# Altium schematic symbol library Schematics.SchLib: 95 symbols
Pins are listed as number, name and electrical type; pins without a type are passive.

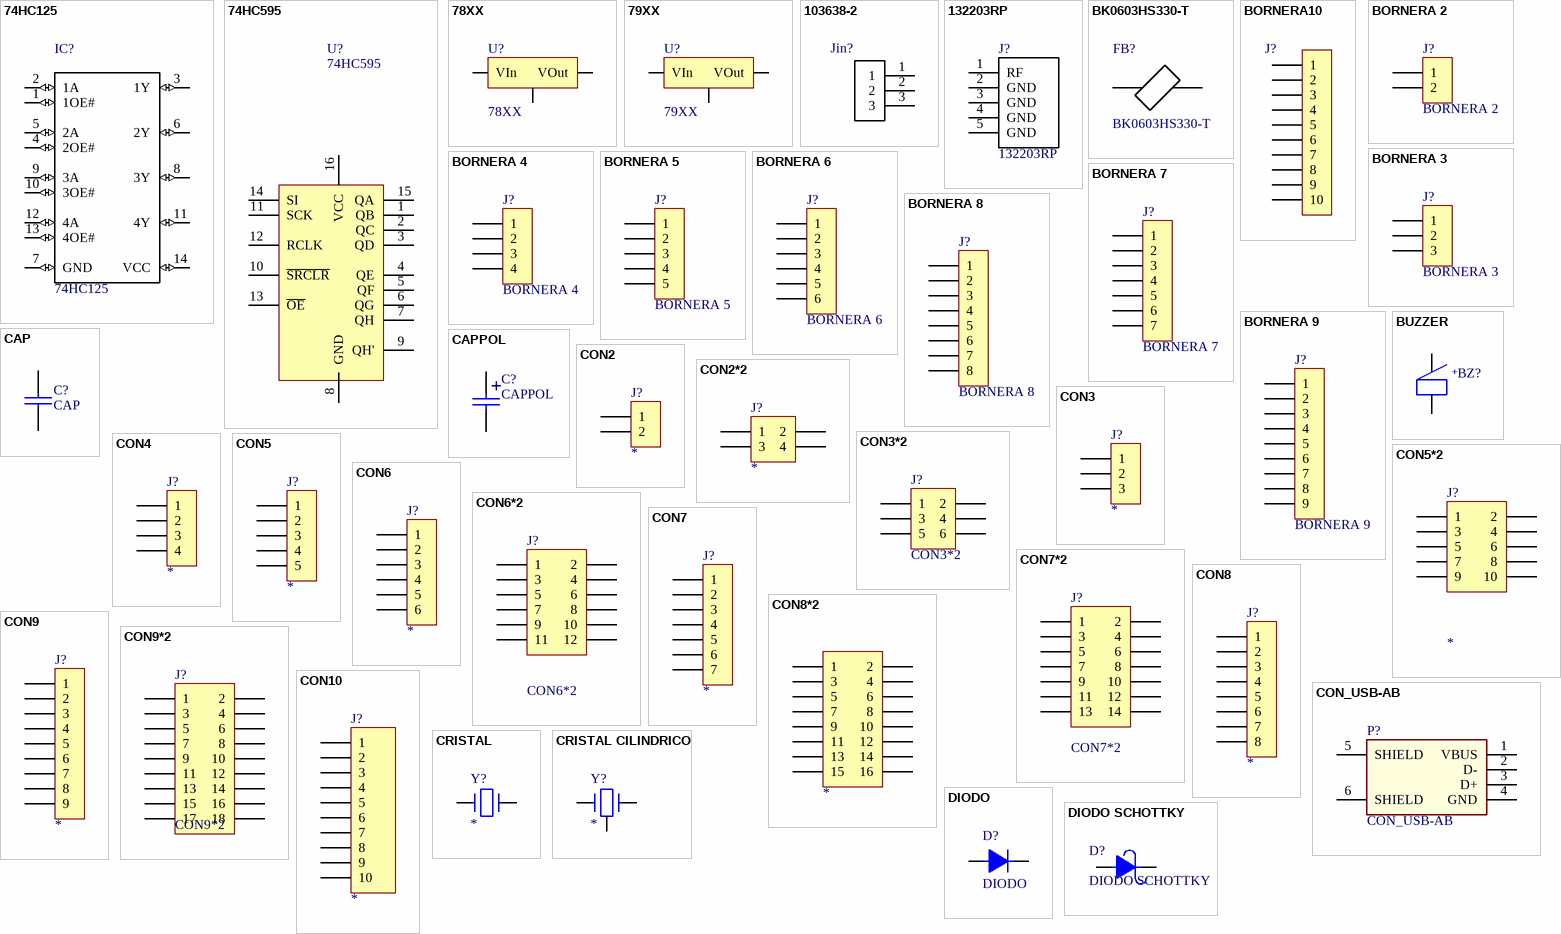
[diagram p0: symbols 74HC125 to DIODO SCHOTTKY]

## 74HC125
designator IC?
Buffer, Non-Inverting 4 Element 1 Bit per Element 3-State Output 14-SO; MF: Nexperia USA; Price: None; Package: SOIC-14 STMicroelectronics; Availability: Unavailable; MP: 74HC125; SnapEDA_Link: https://www.snapeda.com/parts/74HC125/Nexperia%20USA%20Inc./view-part/560724/?ref=snap; Value: *
footprint SOIC-14
pins: 1 1OE# (io), 2 1A (io), 3 1Y (io), 4 2OE# (io), 5 2A (io), 6 2Y (io), 7 GND (io), 8 3Y (io), 9 3A (io), 10 3OE# (io), 11 4Y (io), 12 4A (io), 13 4OE# (io), 14 VCC (io)

## 74HC595
designator U?
footprint DIP16
footprint SOIC16N
pins: 1 QB, 2 QC, 3 QD, 4 QE, 5 QF, 6 QG, 7 QH, 8 GND, 9 QH', 10 ~{SRCLR}, 11 SCK, 12 RCLK, 13 ~{OE}, 14 SI, 15 QA, 16 VCC

## 78XX
designator U?
REGULDOR POSITIVO
footprint TO-220 H
footprint TO-220 V
footprint TO92
footprint TO-220 H - DISIPADOR
pins: 1 VIn, 2 GND, 3 VOut

## 79XX
designator U?
REGULADOR NEGATIVO
footprint TO-220 H
footprint TO-220 V
footprint TO-220 H - DISIPADOR
footprint TO92
pins: 1 GND, 2 VIn, 3 VOut

## 103638-2
designator Jin?  (value not drawn)
Header; Shrouded; Vertical; Brass; Thermoplastic; 3; 0.1 in.; Gold; 0.025 in.; MF: TE Connectivity; TE_purchase_URL: https://www.te.com/usa-en/product-103638-2.html?te_bu=Cor&te_type=disp&te_campaign=seda_glo_cor-seda-global-disp-prtnr-fy19-seda-model-bom-cta_sma-317_1&elqCampaignId=32493; EU_RoHS_Compliance: Not Compliant; SnapEDA_Link: https://www.snapeda.com/parts/103638-2/TE%20Connectivity%20AMP%20Connectors/view-part/?ref=snap; MP: 103638-2; Digi-Key_Purchase_URL: https://www.digikey.com/product-detail/en/te-connectivity-amp-connectors/103638-2/A28527-ND/298717?utm_source=snapeda&utm_medium=aggregator&utm_campaign=symbol; Digi-Key_Part_Number: A28527-ND; Package: None; Value: *
footprint TE_103638-2 (Footprint not found)
pins: 1, 2, 3

## 132203RP
designator J?
SMA Right Angle PCB Jack, Through Hole, 50 Ohm, Bulkhead, Reverse Polarized; MF: Amphenol RF; Package: None; MP: 132203RP; SnapEDA_Link: https://www.snapeda.com/parts/132203RP/Amphenol%20RF%20Division/view-part/?ref=snap; Availability: Unavailable; Price: None; Value: *
footprint AMPHENOL_132203RP
pins: 1 RF, 2 GND, 3 GND, 4 GND, 5 GND

## BK0603HS330-T
designator FB?
Ind Chip Bead Shielded Multi-Layer 33Ohm 25% 100MHz Ferrite 500mA 0201 T/R; MF: Taiyo Yuden; Package: 0603 Taiyo Yuden; Availability: Unavailable; MP: BK0603HS330-T; Price: None; SnapEDA_Link: https://www.snapeda.com/parts/BK0603HS330-T/Taiyo%20Yuden/view-part/?ref=snap; Value: *
footprint BEADC0603X33N
pins: 1, 2

## BORNERA10
designator J?  (value not drawn)
footprint BORNERA10
pins: 1, 2, 3, 4, 5, 6, 7, 8, 9, 10

## BORNERA 2
designator J?
footprint BORNERA2 (Bornera con Tornillos 5mm separación)
pins: 1, 2

## BORNERA 3
designator J?
footprint BORNERA3 (Bornera con Tornillos 5mm separación)
pins: 1, 2, 3

## BORNERA 4
designator J?
footprint BORNERA4 (Bornera con Tornillos 5mm separación)
pins: 1, 2, 3, 4

## BORNERA 5
designator J?
footprint BORNERA5 (Bornera con Tornillos 5mm separación)
pins: 1, 2, 3, 4, 5

## BORNERA 6
designator J?
footprint BORNERA6 (Bornera con Tornillos 5mm separación)
pins: 1, 2, 3, 4, 5, 6

## BORNERA 7
designator J?
footprint BORNERA7 (Bornera con Tornillos 5mm separación)
pins: 1, 2, 3, 4, 5, 6, 7

## BORNERA 8
designator J?
footprint BORNERA8 (Bornera con Tornillos 5mm separación)
pins: 1, 2, 3, 4, 5, 6, 7, 8

## BORNERA 9
designator J?
footprint BORNERA9 (Bornera con Tornillos 5mm separación)
pins: 1, 2, 3, 4, 5, 6, 7, 8, 9

## BUZZER
designator BZ?
footprint BUZZER 12MM
pins: 1, 2
text: +

## CAP
designator C?
footprint 0805 (Pasivo 0805)
footprint 1206 (Pasivo 1206)
footprint 0603 (Footprint not found)
footprint CAP200
footprint CAP100
footprint 0603 - Slim (Pasivo 0603)
footprint 0805 - slim (Pasivo 0805)
footprint 1206 - Slim (Pasivo 1206)
footprint 0402 (Pasivo 0603)
pins: 1, 2

## CAPPOL
designator C?
footprint CAP100RP
footprint CAP200RP
footprint CAP100RP2 (Footprint not found)
footprint CAP200RP2 (Body Diameter 12.5mm)
footprint CAP300RP
pins: 1, 2
text: +

## CON2
designator J?
footprint SIP2
footprint SIP2 90
pins: 1, 2

## CON2*2
designator J?
footprint SIP2*2
pins: 1, 2, 3, 4

## CON3
designator J?
footprint SIP3
footprint SIP3 90
pins: 1, 2, 3

## CON3*2
designator J?
footprint SIP3*2 (Footprint not found)
pins: 1, 2, 3, 4, 5, 6

## CON4
designator J?
footprint SIP4
footprint SIP4 90
pins: 1, 2, 3, 4

## CON5
designator J?
footprint SIP5
footprint SIP5 90
pins: 1, 2, 3, 4, 5

## CON5*2
designator J?
footprint SIP5*2
pins: 1, 2, 3, 4, 5, 6, 7, 8, 9, 10

## CON6
designator J?
footprint SIP6
footprint SIP6 90
pins: 1, 2, 3, 4, 5, 6

## CON6*2
designator J?
footprint SIP6*2
pins: 1, 2, 3, 4, 5, 6, 7, 8, 9, 10, 11, 12

## CON7
designator J?
footprint SIP7
footprint SIP7 90
pins: 1, 2, 3, 4, 5, 6, 7

## CON7*2
designator J?
footprint SIP7*2
pins: 1, 2, 3, 4, 5, 6, 7, 8, 9, 10, 11, 12, 13, 14

## CON8
designator J?
footprint SIP8
footprint SIP8 90
pins: 1, 2, 3, 4, 5, 6, 7, 8

## CON8*2
designator ?
footprint SIP8*2
pins: 1, 2, 3, 4, 5, 6, 7, 8, 9, 10, 11, 12, 13, 14, 15, 16

## CON9
designator J?
footprint SIP9
footprint SIP9 90
pins: 1, 2, 3, 4, 5, 6, 7, 8, 9

## CON9*2
designator J?
footprint SIP9*2
pins: 1, 2, 3, 4, 5, 6, 7, 8, 9, 10, 11, 12, 13, 14, 15, 16, 17, 18

## CON10
designator J?
footprint SIP10
footprint SIP10 90
pins: 1, 2, 3, 4, 5, 6, 7, 8, 9, 10

## CON_USB-AB
designator P?
CONN RCPT USB TYPE B R/A PCB; Digikey: 609-1039-ND
footprint USB-BCH
pins: 1 VBUS, 2 D-, 3 D+, 4 GND, 5 SHIELD, 6 SHIELD

## CRISTAL
designator Y?
footprint CRISTAL PERFIL
pins: 1, 2 10

## CRISTAL CILINDRICO
designator Y?
footprint CRISTAL CILINDRICO (Footprint not found)
pins: 1, 2 10, 3 10

## DIODO
designator D?
footprint SMAK
footprint 1206K
footprint DO41
footprint SMBK
footprint SMCK
pins: 1, 2

## DIODO SCHOTTKY
designator D?
footprint SMAK
footprint SMCK
footprint DO41
footprint SMBK
pins: 1, 2

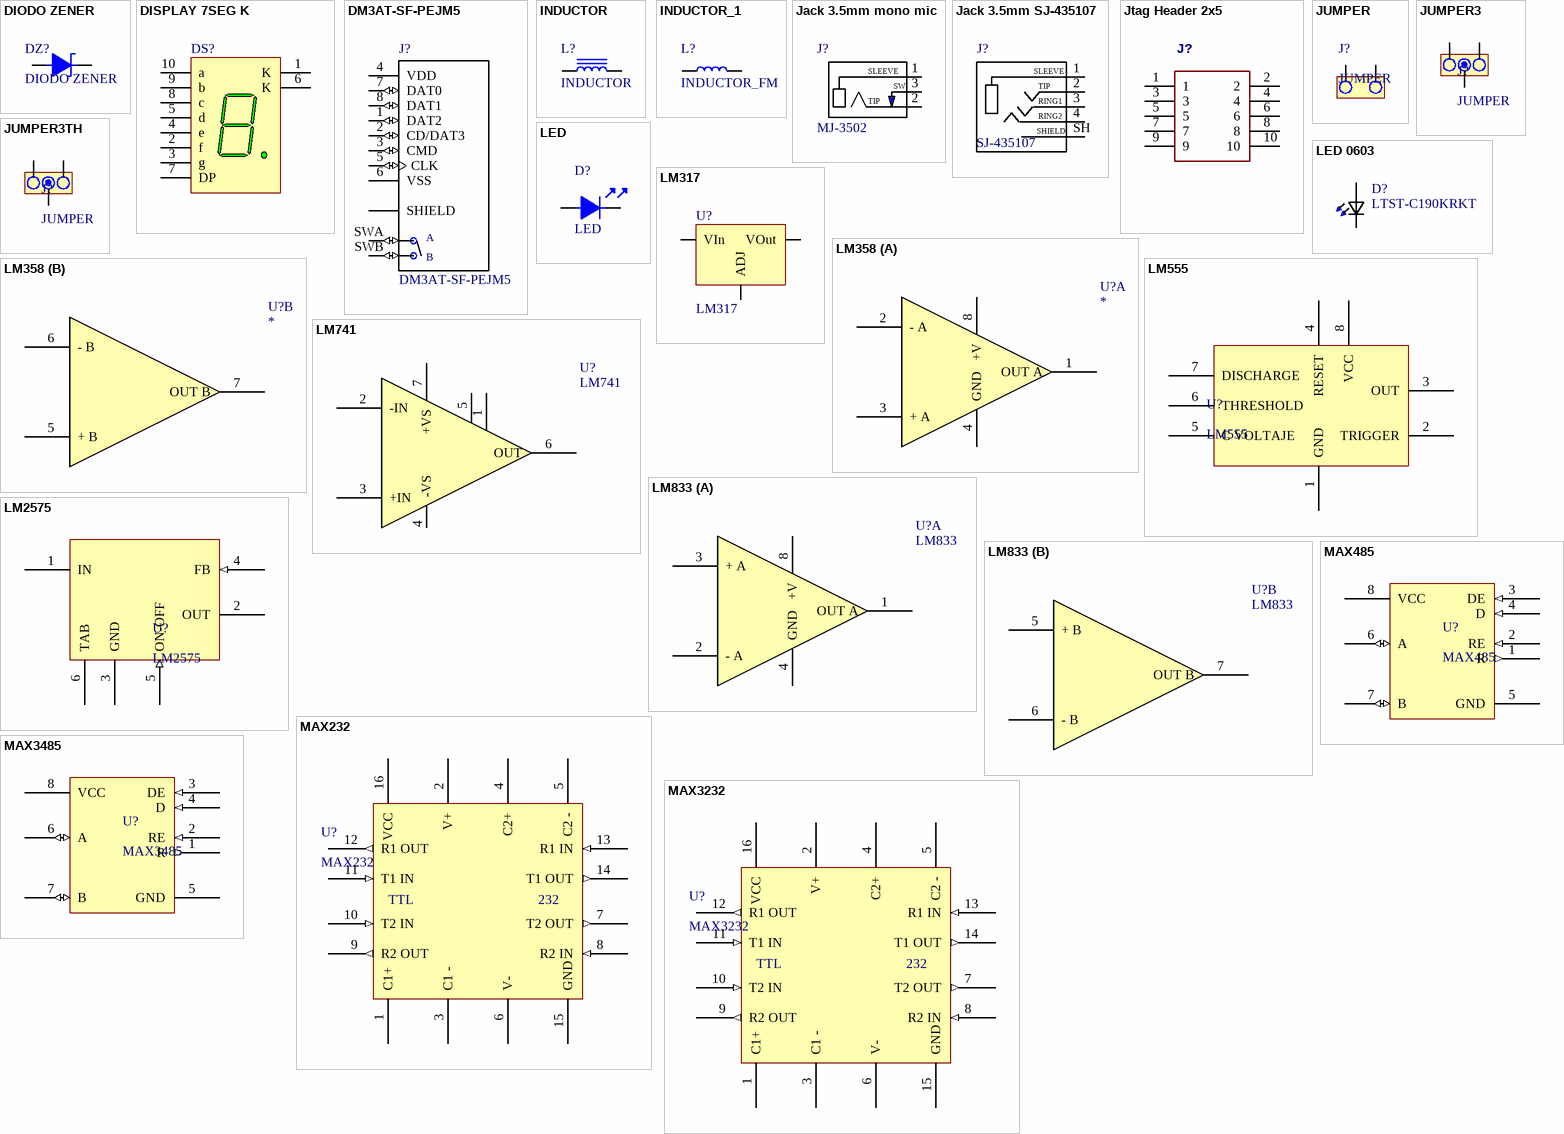
[diagram p1: symbols DIODO ZENER to MAX3485]

## DIODO ZENER
designator DZ?
footprint SOT23
footprint DO41
pins: 1, 2

## DISPLAY 7SEG K
designator DS?
7 Segment display common cathode
footprint DISPLAY_LED_0.3" (TOS-3104AG-B)
pins: 1 K "Cathode", 2 f "Anode", 3 g "Anode", 4 e "Anode", 5 d "Anode", 6 K "Cathode", 7 DP "Anode", 8 c "Anode", 9 b "Anode", 10 a "Anode"

## DM3AT-SF-PEJM5
designator J?
DM3 RA SMT microSD memory card push/push; MF: Hirose; SnapEDA_Link: https://www.snapeda.com/parts/DM3AT-SF-PEJM5/Hirose%20Electric%20Co%20Ltd/view-part/?ref=snap; Digi-Key_Part_Number: HR1964CT-ND; Digi-Key_Purchase_URL: https://www.digikey.com/product-detail/en/hirose-electric-co-ltd/DM3AT-SF-PEJM5/HR1964CT-ND/2533566?utm_source=snapeda&utm_medium=aggregator&utm_campaign=symbol; MP: DM3AT-SF-PEJM5; Package: None; Value: *
footprint HRS_DM3AT-SF-PEJM5_DM3AT-SF-PEJM5(Primary)
pins: 1 DAT2 (io), 2 CD/DAT3 (io), 3 CMD (io), 4 VDD (power), 5 CLK (io), 6 VSS (power), 7 DAT0 (io), 8 DAT1 (io), P1 SHIELD, P2 SHIELD, P3 SHIELD, P4 SHIELD, SWA A (io), SWB B (io)

## INDUCTOR
designator L?
footprint WE-PD SERIES (POWER-CHOKE WE-PD)
footprint DO3316
footprint L_IHLP (Footprint para IHLP2525CZER3R3M11)
footprint SRR1210
pins: 1, 2

## INDUCTOR_1
designator L?, comment INDUCTOR_FM
footprint INDUCTOR_FM
pins: 1, 2

## Jack 3.5mm mono mic
designator J?, comment MJ-3502
3.5 mm, Mono, Right Angle, Through Hole, Threaded Bushing, Audio Jack Connector; MF: CUI Devices; CUI_purchase_URL: https://www.cuidevices.com/product/interconnect/connectors/audio-connectors/jacks/mj-3502?utm_source=snapeda.com&utm_medium=referral&utm_campaign=snapedaBOM; SnapEDA_Link: https://www.snapeda.com/parts/MJ-3502/CUI%20Devices/view-part/576112/?ref=snap; MP: MJ-3502; Availability: Unavailable; Price: None; Package: None; Value: *
footprint CUI_MJ-3502
pins: 1 SLEEVE, 2 TIP, 3 SWITCH
text: SW

## Jack 3.5mm SJ-435107
designator J?, comment SJ-435107
3.5 mm, TRRS 4 Conductors, Right Angle, Through Hole, Spring Tabs,  Shielded, Audio Jack Connector; MF: CUI Devices; CUI_purchase_URL: https://www.cuidevices.com/product/interconnect/connectors/audio-connectors/jacks/sj-435107-series?utm_source=snapeda.com&utm_medium=referral&utm_campaign=snapedaBOM; SnapEDA_Link: https://www.snapeda.com/parts/SJ-435107/CUI%20Devices/view-part/533929/?ref=snap; Availability: Unavailable; Price: None; Package: None; MP: SJ-435107; Value: *
footprint CUI_SJ-435107
pins: 1 SLEEVE, 2 TIP, 3 RING1, 4 RING2, SH
text: SHIELD

## Jtag Header 2x5
designator J?
Jtag Header 2x5: / 1.27mm/50mil
footprint Jtag Header 2x5 (Jtag 10 connector 50mil/1.27mm)
pins: 1, 2, 3, 4, 5, 6, 7, 8, 9, 10

## JUMPER
designator J?
footprint 0805 (Pasivo 0805)
footprint JUMPER2
pins: 1, 2

## JUMPER3
designator J?, comment JUMPER
footprint JUMPER3
pins: 1, 2, 3

## JUMPER3TH
designator J?, comment JUMPER
TIRA DE PINES 1x3
footprint JUMPER3TH
pins: 1, 2, 3

## LED
designator D?
footprint 0805 (Chip Resistor, 2-Leads, Body 0,8"x0,5" - 2,0x1,3mm, IPC High Density)
footprint LED3
footprint LED5
footprint 0805 - slim (Pasivo 0805)
pins: 1, 2

## LED 0603
designator D?, comment LTST-C190KRKT
LTST Series Red 1.6 x 0.8 x 0.8 mm 130Â° Water Clear 54 mcd 2.4 V LED SMT; MF: Lite-On Inc.; Availability: Unavailable; Package: 0603 Lite-On; SnapEDA_Link: https://www.snapeda.com/parts/LTST-C190KRKT/Lite-On%20Inc./view-part/?ref=snap; Price: None; MP: LTST-C190KRKT; Value: *
footprint 0603 LED
pins: 1 K2, 2 A2

## LM317
designator U?
IC REG ADJ 1.5A 3 TERM TO-220
footprint TO-220 H
footprint TO-220 V
footprint TO-220 H - DISIPADOR
pins: 1 ADJ, 2 VOut, 3 VIn

## LM358
designator U?
footprint DIP8
part A pins: 1 OUT A, 2 - A, 3 + A, 4 GND, 8 +V
part B pins: 5 + B, 6 - B, 7 OUT B

## LM555
designator U?
Timer
footprint SO8 (Footprint not found)
footprint DIP8
pins: 1 GND, 2 TRIGGER, 3 OUT, 4 RESET, 5 C VOLTAJE, 6 THRESHOLD, 7 DISCHARGE, 8 VCC

## LM741
designator U?
LM741 Operational Amplifier
footprint DIP8
pins: 1 -RG, 2 -IN, 3 +IN, 4 -VS, 5 +RG, 6 OUT, 7 +VS

## LM833
designator U?
Dual Audio Operational Amplifier
footprint DIP8
part A pins: 1 OUT A, 2 - A, 3 + A, 4 GND, 8 +V
part B pins: 5 + B, 6 - B, 7 OUT B

## LM2575
designator U?
footprint TO263 (Footprint not found)
footprint TO-220_5 H
pins: 1 IN (power), 2 OUT (power), 3 GND (power), 4 FB (in), 5 ON-OFF (in), 6 TAB (power)

## MAX232
designator U?
IC TXRX RS232 1MBPS LP
footprint SOIC16N
footprint DIP16
pins: 1 C1+, 2 V+ (power), 3 C1 -, 4 C2+, 5 C2 -, 6 V- (power), 7 T2 OUT (out), 8 R2 IN (in), 9 R2 OUT (out), 10 T2 IN (in), 11 T1 IN (in), 12 R1 OUT (out), 13 R1 IN (in), 14 T1 OUT (out), 15 GND (power), 16 VCC (power)
text: TTL; 232

## MAX485
designator U?
IC TXRX 5V RS485/422 8 SOIC
footprint SO8 (Footprint not found)
pins: 1 R (out), 2 RE (in), 3 DE (in), 4 D (in), 5 GND (power), 6 A (io), 7 B (io), 8 VCC (power)

## MAX3232
designator U?
IC TXRX RS232 1MBPS LP 16-SOIC (3 V ~ 5.5 V); Part Number: MAX3232CSE
footprint SOIC16N
footprint DIP16
pins: 1 C1+, 2 V+ (power), 3 C1 -, 4 C2+, 5 C2 -, 6 V- (power), 7 T2 OUT (out), 8 R2 IN (in), 9 R2 OUT (out), 10 T2 IN (in), 11 T1 IN (in), 12 R1 OUT (out), 13 R1 IN (in), 14 T1 OUT (out), 15 GND (power), 16 VCC (power)
text: TTL; 232

## MAX3485
designator U?
IC TXRX 3.3V RS485/422 8 SOIC
footprint SO8 (Footprint not found)
pins: 1 R (out), 2 RE (in), 3 DE (in), 4 D (in), 5 GND (power), 6 A (io), 7 B (io), 8 VCC (power)

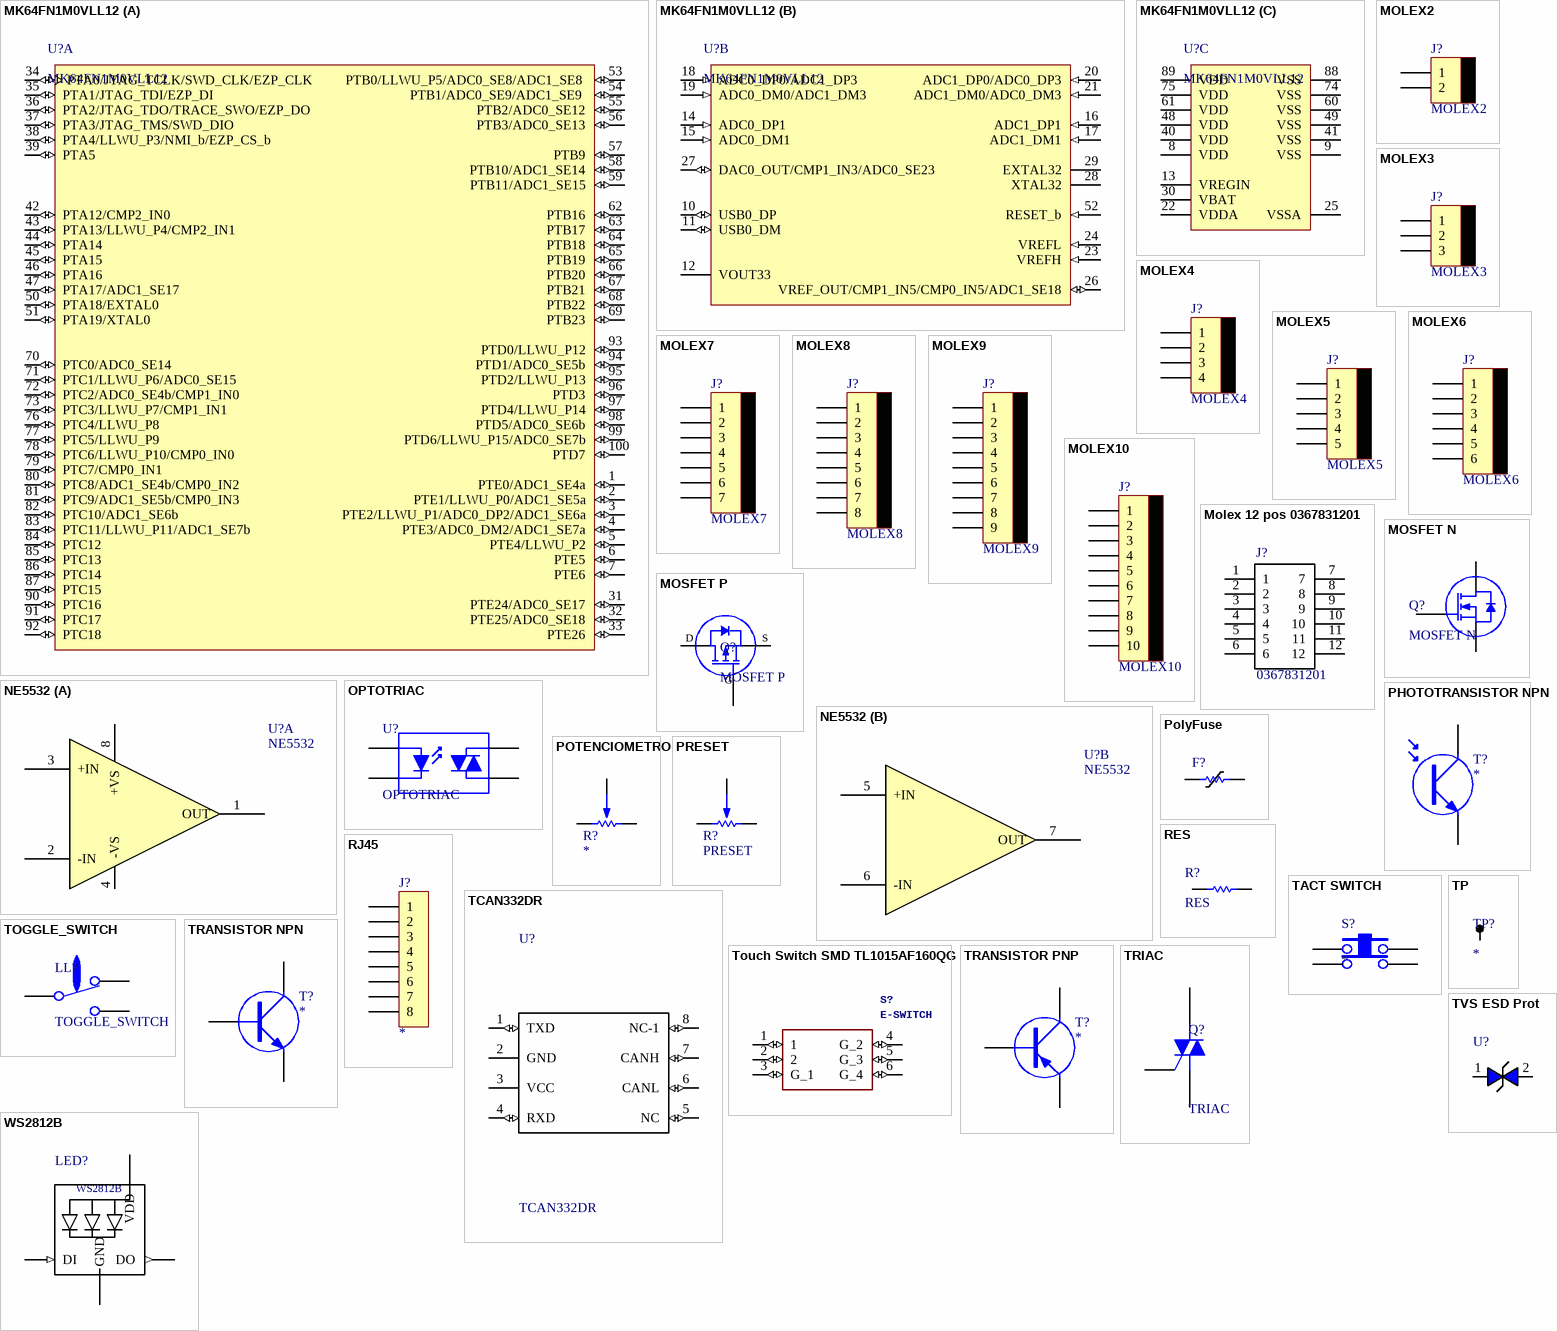
[diagram p2: symbols MK64FN1M0VLL12 to WS2812B]

## MK64FN1M0VLL12
designator U?
Cortex-M4-based Microcontroller with FPU, 1 MB, 120 MHz, 1.71 to 3.6 V, -40 to 105 degC, 100-Pin QFP (983-02), RoHS, Tray; Manufacturer: Freescale Semiconductor; SRAM: 256 KB; Flash: 1 MB; ComponentLink1Description: Manufacturer URL; ComponentLink2Description: Datasheet; DatasheetVersion: Rev. 3; PartNumber: MK64FN1M0VLL12; VDDA: 1.71 to 3.6 V; ComponentLink3Description: Package Specification; ComponentLink1URL: http://www.freescale.com/; ComponentLink2URL: http://cache.freescale.com/files/microcontrollers/doc/data_sheet/K64P144M120SF5.pdf?pspll=1; Packing: Tray; VBAT: 1.71 to 3.6 V; VDD: 1.71 to 3.6 V; Temperature Range: -40 to 105 degC; PackageVersion: Rev. J; Mounting Technology: Surface Mount; PackageDescription: 100-Pin Plastic Quad Flat Package, Body 14 x 14 mm, Pitch 0.5 mm; ComponentLink3URL: http://cache.freescale.com/files/shared/doc/package_info/98ASS23308W.pdf; RoHS: TRUE
footprint 983-02_L
footprint 983-02_M
footprint 983-02_N
part A pins: 1 PTE0/ADC1_SE4a (io), 2 PTE1/LLWU_P0/ADC1_SE5a (io), 3 PTE2/LLWU_P1/ADC0_DP2/ADC1_SE6a (io), 4 PTE3/ADC0_DM2/ADC1_SE7a (io), 5 PTE4/LLWU_P2 (io), 6 PTE5 (io), 7 PTE6 (io), 31 PTE24/ADC0_SE17 (io), 32 PTE25/ADC0_SE18 (io), 33 PTE26 (io), 34 PTA0/JTAG_TCLK/SWD_CLK/EZP_CLK (io), 35 PTA1/JTAG_TDI/EZP_DI (io), 36 PTA2/JTAG_TDO/TRACE_SWO/EZP_DO  (io), 37 PTA3/JTAG_TMS/SWD_DIO (io), 38 PTA4/LLWU_P3/NMI_b/EZP_CS_b (io), 39 PTA5 (io), 42 PTA12/CMP2_IN0 (io), 43 PTA13/LLWU_P4/CMP2_IN1 (io), 44 PTA14 (io), 45 PTA15 (io), 46 PTA16 (io), 47 PTA17/ADC1_SE17  (io), 50 PTA18/EXTAL0  (io), 51 PTA19/XTAL0 (io), 53 PTB0/LLWU_P5/ADC0_SE8/ADC1_SE8  (io), 54 PTB1/ADC0_SE9/ADC1_SE9  (io), 55 PTB2/ADC0_SE12 (io), 56 PTB3/ADC0_SE13 (io), 57 PTB9 (io), 58 PTB10/ADC1_SE14 (io), 59 PTB11/ADC1_SE15 (io), 62 PTB16 (io), 63 PTB17 (io), 64 PTB18 (io), 65 PTB19 (io), 66 PTB20 (io), 67 PTB21 (io), 68 PTB22 (io), 69 PTB23 (io), 70 PTC0/ADC0_SE14 (io), 71 PTC1/LLWU_P6/ADC0_SE15 (io), 72 PTC2/ADC0_SE4b/CMP1_IN0 (io), 73 PTC3/LLWU_P7/CMP1_IN1 (io), 76 PTC4/LLWU_P8 (io), 77 PTC5/LLWU_P9 (io), 78 PTC6/LLWU_P10/CMP0_IN0 (io), 79 PTC7/CMP0_IN1 (io), 80 PTC8/ADC1_SE4b/CMP0_IN2  (io), 81 PTC9/ADC1_SE5b/CMP0_IN3 (io), 82 PTC10/ADC1_SE6b (io), 83 PTC11/LLWU_P11/ADC1_SE7b  (io), 84 PTC12 (io), 85 PTC13 (io), 86 PTC14 (io), 87 PTC15 (io), 90 PTC16 (io), 91 PTC17 (io), 92 PTC18 (io), 93 PTD0/LLWU_P12 (io), 94 PTD1/ADC0_SE5b (io), 95 PTD2/LLWU_P13 (io), 96 PTD3 (io), 97 PTD4/LLWU_P14 (io), 98 PTD5/ADC0_SE6b (io), 99 PTD6/LLWU_P15/ADC0_SE7b (io), 100 PTD7 (io)
part B pins: 10 USB0_DP (io), 11 USB0_DM (io), 12 VOUT33 (power), 14 ADC0_DP1 (in), 15 ADC0_DM1 (in), 16 ADC1_DP1 (in), 17 ADC1_DM1 (in), 18 ADC0_DP0/ADC1_DP3 (in), 19 ADC0_DM0/ADC1_DM3 (in), 20 ADC1_DP0/ADC0_DP3 (in), 21 ADC1_DM0/ADC0_DM3 (in), 23 VREFH (in), 24 VREFL (in), 26 VREF_OUT/CMP1_IN5/CMP0_IN5/ADC1_SE18 (io), 27 DAC0_OUT/CMP1_IN3/ADC0_SE23 (io), 28 XTAL32, 29 EXTAL32, 52 RESET_b (in)
part C pins: 8 VDD (power), 9 VSS (power), 13 VREGIN (power), 22 VDDA (power), 25 VSSA (power), 30 VBAT (power), 40 VDD (power), 41 VSS (power), 48 VDD (power), 49 VSS (power), 60 VSS (power), 61 VDD (power), 74 VSS (power), 75 VDD (power), 88 VSS (power), 89 VDD (power)

## MOLEX2
designator J?
footprint MOLEX2
pins: 1, 2

## MOLEX3
designator J?
footprint MOLEX3
pins: 1, 2, 3

## MOLEX4
designator J?
footprint MOLEX4
pins: 1, 2, 3, 4

## MOLEX5
designator J?
footprint MOLEX5
pins: 1, 2, 3, 4, 5

## MOLEX6
designator J?
footprint MOLEX6
pins: 1, 2, 3, 4, 5, 6

## MOLEX7
designator J?
footprint MOLEX7
pins: 1, 2, 3, 4, 5, 6, 7

## MOLEX8
designator J?
footprint MOLEX8
pins: 1, 2, 3, 4, 5, 6, 7, 8

## MOLEX9
designator J?
footprint MOLEX9
pins: 1, 2, 3, 4, 5, 6, 7, 8, 9

## MOLEX10
designator J?
footprint MOLEX10
pins: 1, 2, 3, 4, 5, 6, 7, 8, 9, 10

## Molex 12 pos 0367831201
designator J?, comment 0367831201
Connector Header Panel Mount, Through Hole, Right Angle 12 position 0.126 _3.20mm_; MF: Molex; Availability: Unavailable; Price: None; Package: None; MP: 0367831201; SnapEDA_Link: https://www.snapeda.com/parts/0367831201/Molex/view-part/525637/?ref=snap; Value: *
footprint MOLEX_0367831201
pins: 1, 2, 3, 4, 5, 6, 7, 8, 9, 10, 11, 12

## MOSFET N
designator Q?
footprint SOT23
footprint TO-220 V
pins: 1 G, 2 D, 3 S

## MOSFET P
designator Q?
footprint SOT23
footprint TO-220 V
pins: 1 G, 2 D, 3 S

## NE5532
designator U?
IC OPAMP DUAL LOW NOISE 8-DIP
footprint DIP8
footprint SOIC8
part A pins: 1 OUT, 2 -IN, 3 +IN, 4 -VS, 8 +VS
part B pins: 5 +IN, 6 -IN, 7 OUT

## OPTOTRIAC
designator U?
footprint DIP6
pins: 1 A, 2 K, 4 A2, 6 A1

## PHOTOTRANSISTOR NPN
designator T?
footprint LED5
pins: 1 E, 2 C

## PolyFuse
designator F?
Polymeric PTC Resettable Fuse / 0805 _2012 Metric_, Concave; Price: None; Value: *
footprint 0805 Polyfuse (Polyfuse footprint)
pins: 1, 2

## POTENCIOMETRO
designator R?
footprint POTENCIOMETRO
pins: 1, 2, 3

## PRESET
designator R?
footprint PRESET H
footprint PRESET V
pins: 1, 2, 3

## RES
designator R?
footprint 0805 (Chip Resistor, 2-Leads, Body 0,8"x0,5" - 2,0x1,3mm, IPC High Density)
footprint RES400
footprint RES100
footprint RES300
footprint 1206 (Pasivo 1206)
footprint RES500
footprint RES600
footprint RES1200
footprint 0603 - Slim (Pasivo 0603)
footprint 0805 - slim (Pasivo 0805)
footprint 1206 - Slim (Pasivo 1206)
footprint 0402 (Pasivo 0603)
footprint 1206 (Pasivo 1206)
pins: 1, 2

## RJ45
designator J?
footprint RJ45
pins: 1, 2, 3, 4, 5, 6, 7, 8

## TACT SWITCH
designator S?
footprint TACTSWITCH
pins: 1, 2, 3, 4

## TCAN332DR
designator U?
3.3-V CAN Transceivers with CAN FD _Flexible Data Rate_ 8-SOIC -40 to 125; MF: Texas Instruments; Availability: Unavailable; MP: TCAN332DR; Price: None; Package: SOIC-8 Texas Instruments; SnapEDA_Link: https://www.snapeda.com/parts/TCAN332DR/Texas%20Instruments/view-part/?ref=snap; Value: *
footprint SOIC127P600X175-8N
pins: 1 TXD (io), 2 GND (power), 3 VCC (power), 4 RXD (io), 5 NC (io), 6 CANL (io), 7 CANH (io), 8 NC-1 (io)

## TOGGLE_SWITCH
designator LL?
Pulsador con reteción
footprint TOOGLE SWITCH SIMPLE
pins: 1 NA, 2 C, 3 NC

## Touch Switch SMD TL1015AF160QG
designator S?, comment E-SWITCH
- TL1015AF160QG - SWITCH, TACTILE, SPST, 0.05A, 12V, SMDSource:  Datasheet; GateName_1: G$1; SymbolName_1: TL1015AF160QG; LibraryName: TL1015AF160QG; DeviceSetName: TL1015AF160QG; Package: TL1015; Manufacturer_Name: E-Switch; Manufacturer_Part_Number: TL1015AF160QG; Mouser_Part_Number: 612-TL1015AF; Mouser_Price-Stock: https://www.mouser.com/Search/Refine.aspx?Keyword=612-TL1015AF; Height: mm
footprint TL1015
pins: 1 (io), 2 (io), 3 G_1 (io), 4 G_2 (io), 5 G_3 (io), 6 G_4 (io)

## TP
designator TP?
footprint TPSMD
footprint TPTH
pins: 1

## TRANSISTOR NPN
designator T?
footprint SOT23
footprint TO92
footprint TO-220 H
footprint TO-220 V
footprint TO-220 H - DISIPADOR
footprint TO-126 V
footprint TO3
pins: 1 B, 2 C, 3 E

## TRANSISTOR PNP
designator T?
footprint SOT23
footprint TO92
footprint TO-220 H
footprint TO-220 V
footprint TO-220 H - DISIPADOR
footprint TO-126 V
pins: 1 B, 2 C, 3 E

## TRIAC
designator Q?
footprint TO-220 H
footprint TO-220 V
pins: 1 M1, 2 M2, 3 G

## TVS ESD Prot
designator U?
Clamp Tvs Diode; Value: *
footprint 0402 TVS
pins: 1, 2

## WS2812B
designator LED?  (value not drawn)
Intelligent Control Led Integrated Light Source Pack Of 10; MF: Worldsemi; Availability: Unavailable; SnapEDA_Link: https://www.snapeda.com/parts/WS2812B/Adafruit%20Industries/view-part/?ref=snap; MP: WS2812B; Package: None; Price: None; Value: *
footprint WS2812B (Footprint not found)
pins: 1-VDD VDD (power), 2-DOUT DO (out), 3-GND GND (power), 4-DIN DI (in)

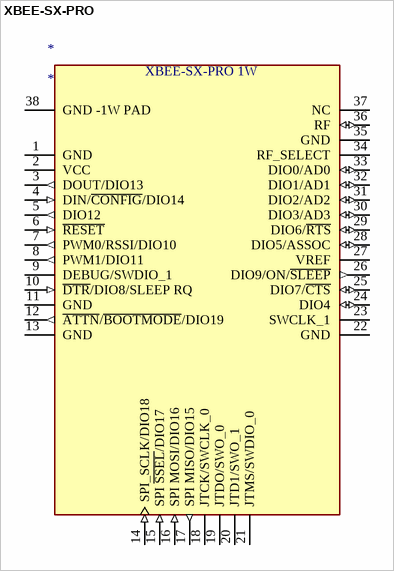
[diagram p3: symbol XBEE-SX-PRO]

## XBEE-SX-PRO
designator *
XBEE-SX-PRO Includes termal pad for heat transfer (add plane below)
footprint Digi_International_XBP9X-DMRS-001_0
pins: 1 GND (power), 2 VCC (power), 3 DOUT/DIO13 (out), 4 DIN/~{CONFIG}/DIO14 (in), 5 DIO12 (out), 6 ~{RESET} (in), 7 PWM0/RSSI/DIO10 (out), 8 PWM1/DIO11 (out), 9 DEBUG/SWDIO_1, 10 ~{DTR}/DIO8/SLEEP RQ (in), 11 GND (power), 12 ~{ATTN}/~{BOOTMODE}/DIO19 (out), 13 GND (power), 14 SPI_SCLK/DIO18 (in), 15 SPI ~{SSEL}/DIO17 (in), 16 SPI MOSI/DIO16 (in), 17 SPI MISO/DIO15 (out), 18 JTCK/SWCLK_0, 19 JTDO/SWO_0, 20 JTD1/SWO_1, 21 JTMS/SWDIO_0, 22 GND (power), 23 SWCLK_1, 24 DIO4 (io), 25 DIO7/~{CTS} (io), 26 DIO9/ON/~{SLEEP} (out), 27 VREF, 28 DIO5/ASSOC (io), 29 DIO6/~{RTS} (io), 30 DIO3/AD3 (io), 31 DIO2/AD2 (io), 32 DIO1/AD1 (io), 33 DIO0/AD0 (io), 34 RF_SELECT, 35 GND (power), 36 RF (io), 37 NC, 38 GND -1W PAD (power)
text: XBEE-SX-PRO 1W